# Altium integrated library Philips Microcontroller 8-Bit.IntLib: 472 symbols (part 15 of 17)
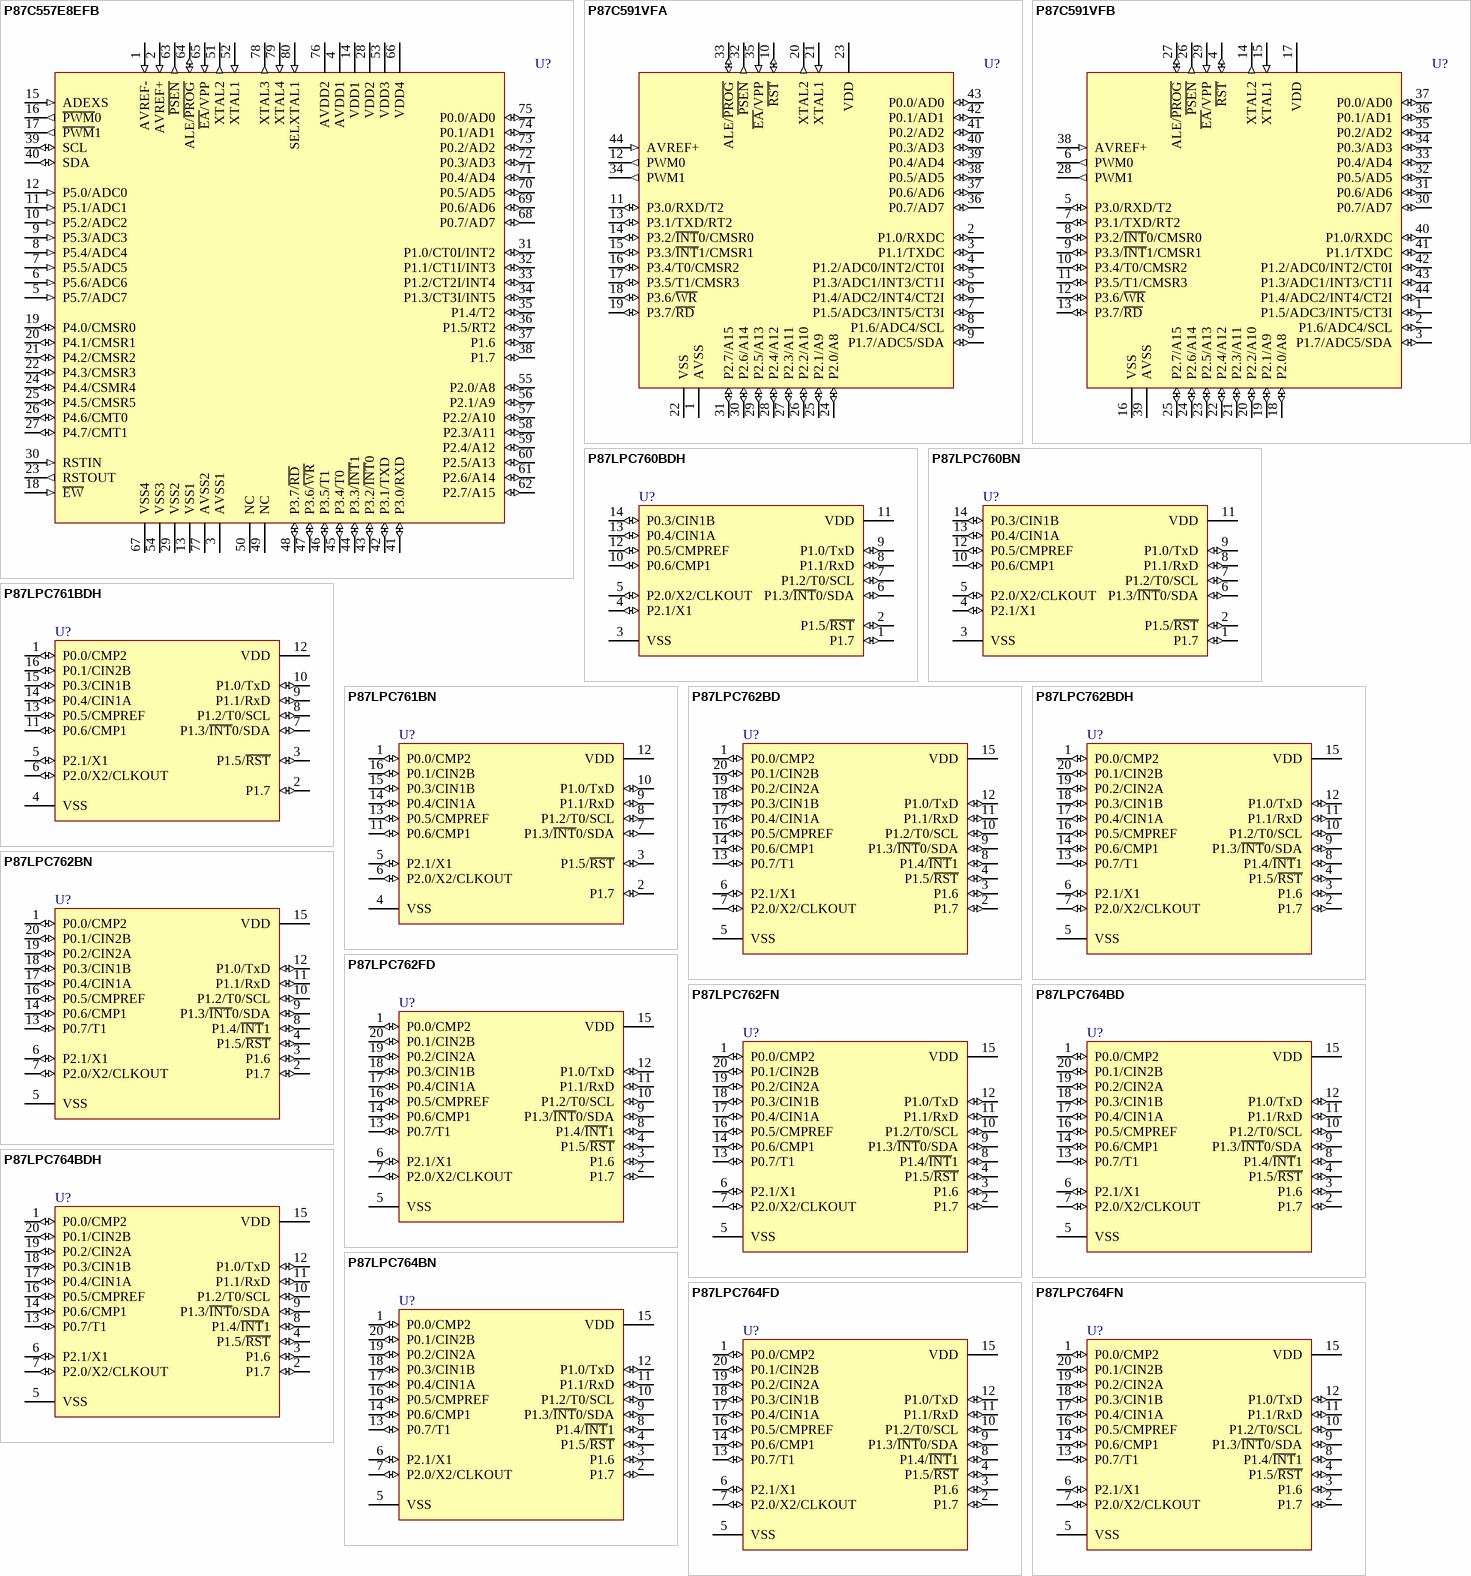
[diagram p62: symbols P87C557E8EFB to P87LPC764FN]

## P87LPC762BD
designator U?
Low Power, Low Price, Low Pin Count (20 pin) Microcontroller with 2 kB OTP; Published: 21-May-2003; LatestRevisionDate: 13-Apr-2006; LatestRevisionNote: IPC-7351 Footprint Added.; DatasheetVersion: 26-Oct-2001; PackageVersion: Oct-2001; PackageReference: SOT163-1; Publisher: Altium Limited; PackageDescription: 20-Pin Plastic Small Outline Integrated Circuit 1.27 mm Pitch; Code_JEDEC: MS-013; Code_IPC: SOIC127P1030-20; ComponentLink1Description: Manufacturer Link; ComponentLink1URL: http://www-us2.semiconductors.philips.com/; ComponentLink2Description: Datasheet; ComponentLink2URL: http://www.semiconductors.philips.com/acrobat/datasheets/87LPC762_7.pdf
footprint SOT163-1_N (SOIC, 20-Leads, Body 12.8x7.5mm, Pitch 1.27mm, IPC Medium Density)
footprint SOT163-1_L (SOIC, 20-Leads, Body 12.8x7.5mm, Pitch 1.27mm, IPC High Density)
footprint SOT163-1_M (SOIC, 20-Leads, Body 12.8x7.5mm, Pitch 1.27mm, IPC Low Density)
pins: 1 P0.0/CMP2 (io), 2 P1.7 (io), 3 P1.6 (io), 4 P1.5/~{RST} (io), 5 VSS (power), 6 P2.1/X1 (io), 7 P2.0/X2/CLKOUT (io), 8 P1.4/~{INT}1 (io), 9 P1.3/~{INT}0/SDA (io), 10 P1.2/T0/SCL (io), 11 P1.1/RxD (io), 12 P1.0/TxD (io), 13 P0.7/T1 (io), 14 P0.6/CMP1 (io), 15 VDD (power), 16 P0.5/CMPREF (io), 17 P0.4/CIN1A (io), 18 P0.3/CIN1B (io), 19 P0.2/CIN2A (io), 20 P0.1/CIN2B (io)

## P87LPC762BDH
designator U?
Low Power, Low Price, Low Pin Count (20 pin) Microcontroller with 2 kB OTP; Published: 21-May-2003; DatasheetVersion: 26-Oct-2001; PackageVersion: Oct-2001; PackageReference: SOT360-1; Publisher: Altium Limited; PackageDescription: Shrink Small Outline; 20 Leads; Body Width 4.4 mm; Pitch 0.65 mm; Code_JEDEC: MO-153; ComponentLink1Description: Manufacturer Link; ComponentLink1URL: http://www-us2.semiconductors.philips.com/; ComponentLink2Description: Datasheet; ComponentLink2URL: http://www.semiconductors.philips.com/acrobat/datasheets/87LPC762_7.pdf
footprint SOT360-1 (Shrink Small Outline; 20 Leads; Body Width 4.4 mm; Pitch 0.65 mm)
pins: 1 P0.0/CMP2 (io), 2 P1.7 (io), 3 P1.6 (io), 4 P1.5/~{RST} (io), 5 VSS (power), 6 P2.1/X1 (io), 7 P2.0/X2/CLKOUT (io), 8 P1.4/~{INT}1 (io), 9 P1.3/~{INT}0/SDA (io), 10 P1.2/T0/SCL (io), 11 P1.1/RxD (io), 12 P1.0/TxD (io), 13 P0.7/T1 (io), 14 P0.6/CMP1 (io), 15 VDD (power), 16 P0.5/CMPREF (io), 17 P0.4/CIN1A (io), 18 P0.3/CIN1B (io), 19 P0.2/CIN2A (io), 20 P0.1/CIN2B (io)

## P87LPC762BN
designator U?
Low Power, Low Price, Low Pin Count (20 pin) Microcontroller with 2 kB OTP; Published: 21-May-2003; DatasheetVersion: 26-Oct-2001; PackageVersion: Oct-2001; PackageReference: SOT146-1; Publisher: Altium Limited; PackageDescription: DIP; 20 Leads; Row Spacing 7.62 mm; Pitch 2.54 mm; Code_JEDEC: MS-001-AD; ComponentLink1Description: Manufacturer Link; ComponentLink1URL: http://www-us2.semiconductors.philips.com/; ComponentLink2Description: Datasheet; ComponentLink2URL: http://www.semiconductors.philips.com/acrobat/datasheets/87LPC762_7.pdf
footprint SOT146-1 (DIP; 20 Leads; Row Spacing 7.62 mm; Pitch 2.54 mm)
pins: 1 P0.0/CMP2 (io), 2 P1.7 (io), 3 P1.6 (io), 4 P1.5/~{RST} (io), 5 VSS (power), 6 P2.1/X1 (io), 7 P2.0/X2/CLKOUT (io), 8 P1.4/~{INT}1 (io), 9 P1.3/~{INT}0/SDA (io), 10 P1.2/T0/SCL (io), 11 P1.1/RxD (io), 12 P1.0/TxD (io), 13 P0.7/T1 (io), 14 P0.6/CMP1 (io), 15 VDD (power), 16 P0.5/CMPREF (io), 17 P0.4/CIN1A (io), 18 P0.3/CIN1B (io), 19 P0.2/CIN2A (io), 20 P0.1/CIN2B (io)

## P87LPC762FD
designator U?
Low Power, Low Price, Low Pin Count (20 pin) Microcontroller with 2 kB OTP; Published: 21-May-2003; LatestRevisionDate: 13-Apr-2006; LatestRevisionNote: IPC-7351 Footprint Added.; DatasheetVersion: 26-Oct-2001; PackageVersion: Oct-2001; PackageReference: SOT163-1; Publisher: Altium Limited; PackageDescription: 20-Pin Plastic Small Outline Integrated Circuit 1.27 mm Pitch; Code_JEDEC: MS-013; Code_IPC: SOIC127P1030-20; ComponentLink1Description: Manufacturer Link; ComponentLink1URL: http://www-us2.semiconductors.philips.com/; ComponentLink2Description: Datasheet; ComponentLink2URL: http://www.semiconductors.philips.com/acrobat/datasheets/87LPC762_7.pdf
footprint SOT163-1_N (SOIC, 20-Leads, Body 12.8x7.5mm, Pitch 1.27mm, IPC Medium Density)
footprint SOT163-1_L (SOIC, 20-Leads, Body 12.8x7.5mm, Pitch 1.27mm, IPC High Density)
footprint SOT163-1_M (SOIC, 20-Leads, Body 12.8x7.5mm, Pitch 1.27mm, IPC Low Density)
pins: 1 P0.0/CMP2 (io), 2 P1.7 (io), 3 P1.6 (io), 4 P1.5/~{RST} (io), 5 VSS (power), 6 P2.1/X1 (io), 7 P2.0/X2/CLKOUT (io), 8 P1.4/~{INT}1 (io), 9 P1.3/~{INT}0/SDA (io), 10 P1.2/T0/SCL (io), 11 P1.1/RxD (io), 12 P1.0/TxD (io), 13 P0.7/T1 (io), 14 P0.6/CMP1 (io), 15 VDD (power), 16 P0.5/CMPREF (io), 17 P0.4/CIN1A (io), 18 P0.3/CIN1B (io), 19 P0.2/CIN2A (io), 20 P0.1/CIN2B (io)

## P87LPC762FN
designator U?
Low Power, Low Price, Low Pin Count (20 pin) Microcontroller with 2 kB OTP; Published: 21-May-2003; DatasheetVersion: 26-Oct-2001; PackageVersion: Oct-2001; PackageReference: SOT146-1; Publisher: Altium Limited; PackageDescription: DIP; 20 Leads; Row Spacing 7.62 mm; Pitch 2.54 mm; Code_JEDEC: MS-001-AD; ComponentLink1Description: Manufacturer Link; ComponentLink1URL: http://www-us2.semiconductors.philips.com/; ComponentLink2Description: Datasheet; ComponentLink2URL: http://www.semiconductors.philips.com/acrobat/datasheets/87LPC762_7.pdf
footprint SOT146-1 (DIP; 20 Leads; Row Spacing 7.62 mm; Pitch 2.54 mm)
pins: 1 P0.0/CMP2 (io), 2 P1.7 (io), 3 P1.6 (io), 4 P1.5/~{RST} (io), 5 VSS (power), 6 P2.1/X1 (io), 7 P2.0/X2/CLKOUT (io), 8 P1.4/~{INT}1 (io), 9 P1.3/~{INT}0/SDA (io), 10 P1.2/T0/SCL (io), 11 P1.1/RxD (io), 12 P1.0/TxD (io), 13 P0.7/T1 (io), 14 P0.6/CMP1 (io), 15 VDD (power), 16 P0.5/CMPREF (io), 17 P0.4/CIN1A (io), 18 P0.3/CIN1B (io), 19 P0.2/CIN2A (io), 20 P0.1/CIN2B (io)

## P87LPC764BD
designator U?
Low Power, Low Price, Low Pin Count (20 pin) Microcontroller with 4 kB OTP; Published: 21-May-2003; LatestRevisionDate: 13-Apr-2006; LatestRevisionNote: IPC-7351 Footprint Added.; DatasheetVersion: 26-Oct-2001; PackageVersion: Oct-2001; PackageReference: SOT163-1; Publisher: Altium Limited; PackageDescription: 20-Pin Plastic Small Outline Integrated Circuit 1.27 mm Pitch; Code_JEDEC: MS-013; Code_IPC: SOIC127P1030-20; ComponentLink1Description: Manufacturer Link; ComponentLink1URL: http://www-us2.semiconductors.philips.com/; ComponentLink2Description: Datasheet; ComponentLink2URL: http://www.semiconductors.philips.com/acrobat/datasheets/P87LPC764_11.pdf
footprint SOT163-1_N (SOIC, 20-Leads, Body 12.8x7.5mm, Pitch 1.27mm, IPC Medium Density)
footprint SOT163-1_L (SOIC, 20-Leads, Body 12.8x7.5mm, Pitch 1.27mm, IPC High Density)
footprint SOT163-1_M (SOIC, 20-Leads, Body 12.8x7.5mm, Pitch 1.27mm, IPC Low Density)
pins: 1 P0.0/CMP2 (io), 2 P1.7 (io), 3 P1.6 (io), 4 P1.5/~{RST} (io), 5 VSS (power), 6 P2.1/X1 (io), 7 P2.0/X2/CLKOUT (io), 8 P1.4/~{INT}1 (io), 9 P1.3/~{INT}0/SDA (io), 10 P1.2/T0/SCL (io), 11 P1.1/RxD (io), 12 P1.0/TxD (io), 13 P0.7/T1 (io), 14 P0.6/CMP1 (io), 15 VDD (power), 16 P0.5/CMPREF (io), 17 P0.4/CIN1A (io), 18 P0.3/CIN1B (io), 19 P0.2/CIN2A (io), 20 P0.1/CIN2B (io)

## P87LPC764BDH
designator U?
Low Power, Low Price, Low Pin Count (20 pin) Microcontroller with 4 kB OTP; Published: 21-May-2003; DatasheetVersion: 26-Oct-2001; PackageVersion: Oct-2001; PackageReference: SOT360-1; Publisher: Altium Limited; PackageDescription: Shrink Small Outline; 20 Leads; Body Width 4.4 mm; Pitch 0.65 mm; Code_JEDEC: MO-153; ComponentLink1Description: Manufacturer Link; ComponentLink1URL: http://www-us2.semiconductors.philips.com/; ComponentLink2Description: Datasheet; ComponentLink2URL: http://www.semiconductors.philips.com/acrobat/datasheets/P87LPC764_11.pdf
footprint SOT360-1 (Shrink Small Outline; 20 Leads; Body Width 4.4 mm; Pitch 0.65 mm)
pins: 1 P0.0/CMP2 (io), 2 P1.7 (io), 3 P1.6 (io), 4 P1.5/~{RST} (io), 5 VSS (power), 6 P2.1/X1 (io), 7 P2.0/X2/CLKOUT (io), 8 P1.4/~{INT}1 (io), 9 P1.3/~{INT}0/SDA (io), 10 P1.2/T0/SCL (io), 11 P1.1/RxD (io), 12 P1.0/TxD (io), 13 P0.7/T1 (io), 14 P0.6/CMP1 (io), 15 VDD (power), 16 P0.5/CMPREF (io), 17 P0.4/CIN1A (io), 18 P0.3/CIN1B (io), 19 P0.2/CIN2A (io), 20 P0.1/CIN2B (io)

## P87LPC764BN
designator U?
Low Power, Low Price, Low Pin Count (20 pin) Microcontroller with 4 kB OTP; Published: 21-May-2003; DatasheetVersion: 26-Oct-2001; PackageVersion: Oct-2001; PackageReference: SOT146-1; Publisher: Altium Limited; PackageDescription: DIP; 20 Leads; Row Spacing 7.62 mm; Pitch 2.54 mm; Code_JEDEC: MS-001-AD; ComponentLink1Description: Manufacturer Link; ComponentLink1URL: http://www-us2.semiconductors.philips.com/; ComponentLink2Description: Datasheet; ComponentLink2URL: http://www.semiconductors.philips.com/acrobat/datasheets/P87LPC764_11.pdf
footprint SOT146-1 (DIP; 20 Leads; Row Spacing 7.62 mm; Pitch 2.54 mm)
pins: 1 P0.0/CMP2 (io), 2 P1.7 (io), 3 P1.6 (io), 4 P1.5/~{RST} (io), 5 VSS (power), 6 P2.1/X1 (io), 7 P2.0/X2/CLKOUT (io), 8 P1.4/~{INT}1 (io), 9 P1.3/~{INT}0/SDA (io), 10 P1.2/T0/SCL (io), 11 P1.1/RxD (io), 12 P1.0/TxD (io), 13 P0.7/T1 (io), 14 P0.6/CMP1 (io), 15 VDD (power), 16 P0.5/CMPREF (io), 17 P0.4/CIN1A (io), 18 P0.3/CIN1B (io), 19 P0.2/CIN2A (io), 20 P0.1/CIN2B (io)

## P87LPC764FD
designator U?
Low Power, Low Price, Low Pin Count (20 pin) Microcontroller with 4 kB OTP; Published: 21-May-2003; LatestRevisionDate: 13-Apr-2006; LatestRevisionNote: IPC-7351 Footprint Added.; DatasheetVersion: 26-Oct-2001; PackageVersion: Oct-2001; PackageReference: SOT163-1; Publisher: Altium Limited; PackageDescription: 20-Pin Plastic Small Outline Integrated Circuit 1.27 mm Pitch; Code_JEDEC: MS-013; Code_IPC: SOIC127P1030-20; ComponentLink1Description: Manufacturer Link; ComponentLink1URL: http://www-us2.semiconductors.philips.com/; ComponentLink2Description: Datasheet; ComponentLink2URL: http://www.semiconductors.philips.com/acrobat/datasheets/P87LPC764_11.pdf
footprint SOT163-1_N (SOIC, 20-Leads, Body 12.8x7.5mm, Pitch 1.27mm, IPC Medium Density)
footprint SOT163-1_L (SOIC, 20-Leads, Body 12.8x7.5mm, Pitch 1.27mm, IPC High Density)
footprint SOT163-1_M (SOIC, 20-Leads, Body 12.8x7.5mm, Pitch 1.27mm, IPC Low Density)
pins: 1 P0.0/CMP2 (io), 2 P1.7 (io), 3 P1.6 (io), 4 P1.5/~{RST} (io), 5 VSS (power), 6 P2.1/X1 (io), 7 P2.0/X2/CLKOUT (io), 8 P1.4/~{INT}1 (io), 9 P1.3/~{INT}0/SDA (io), 10 P1.2/T0/SCL (io), 11 P1.1/RxD (io), 12 P1.0/TxD (io), 13 P0.7/T1 (io), 14 P0.6/CMP1 (io), 15 VDD (power), 16 P0.5/CMPREF (io), 17 P0.4/CIN1A (io), 18 P0.3/CIN1B (io), 19 P0.2/CIN2A (io), 20 P0.1/CIN2B (io)

## P87LPC764FN
designator U?
Low Power, Low Price, Low Pin Count (20 pin) Microcontroller with 4 kB OTP; Published: 21-May-2003; DatasheetVersion: 26-Oct-2001; PackageVersion: Oct-2001; PackageReference: SOT146-1; Publisher: Altium Limited; PackageDescription: DIP; 20 Leads; Row Spacing 7.62 mm; Pitch 2.54 mm; Code_JEDEC: MS-001-AD; ComponentLink1Description: Manufacturer Link; ComponentLink1URL: http://www-us2.semiconductors.philips.com/; ComponentLink2Description: Datasheet; ComponentLink2URL: http://www.semiconductors.philips.com/acrobat/datasheets/P87LPC764_11.pdf
footprint SOT146-1 (DIP; 20 Leads; Row Spacing 7.62 mm; Pitch 2.54 mm)
pins: 1 P0.0/CMP2 (io), 2 P1.7 (io), 3 P1.6 (io), 4 P1.5/~{RST} (io), 5 VSS (power), 6 P2.1/X1 (io), 7 P2.0/X2/CLKOUT (io), 8 P1.4/~{INT}1 (io), 9 P1.3/~{INT}0/SDA (io), 10 P1.2/T0/SCL (io), 11 P1.1/RxD (io), 12 P1.0/TxD (io), 13 P0.7/T1 (io), 14 P0.6/CMP1 (io), 15 VDD (power), 16 P0.5/CMPREF (io), 17 P0.4/CIN1A (io), 18 P0.3/CIN1B (io), 19 P0.2/CIN2A (io), 20 P0.1/CIN2B (io)

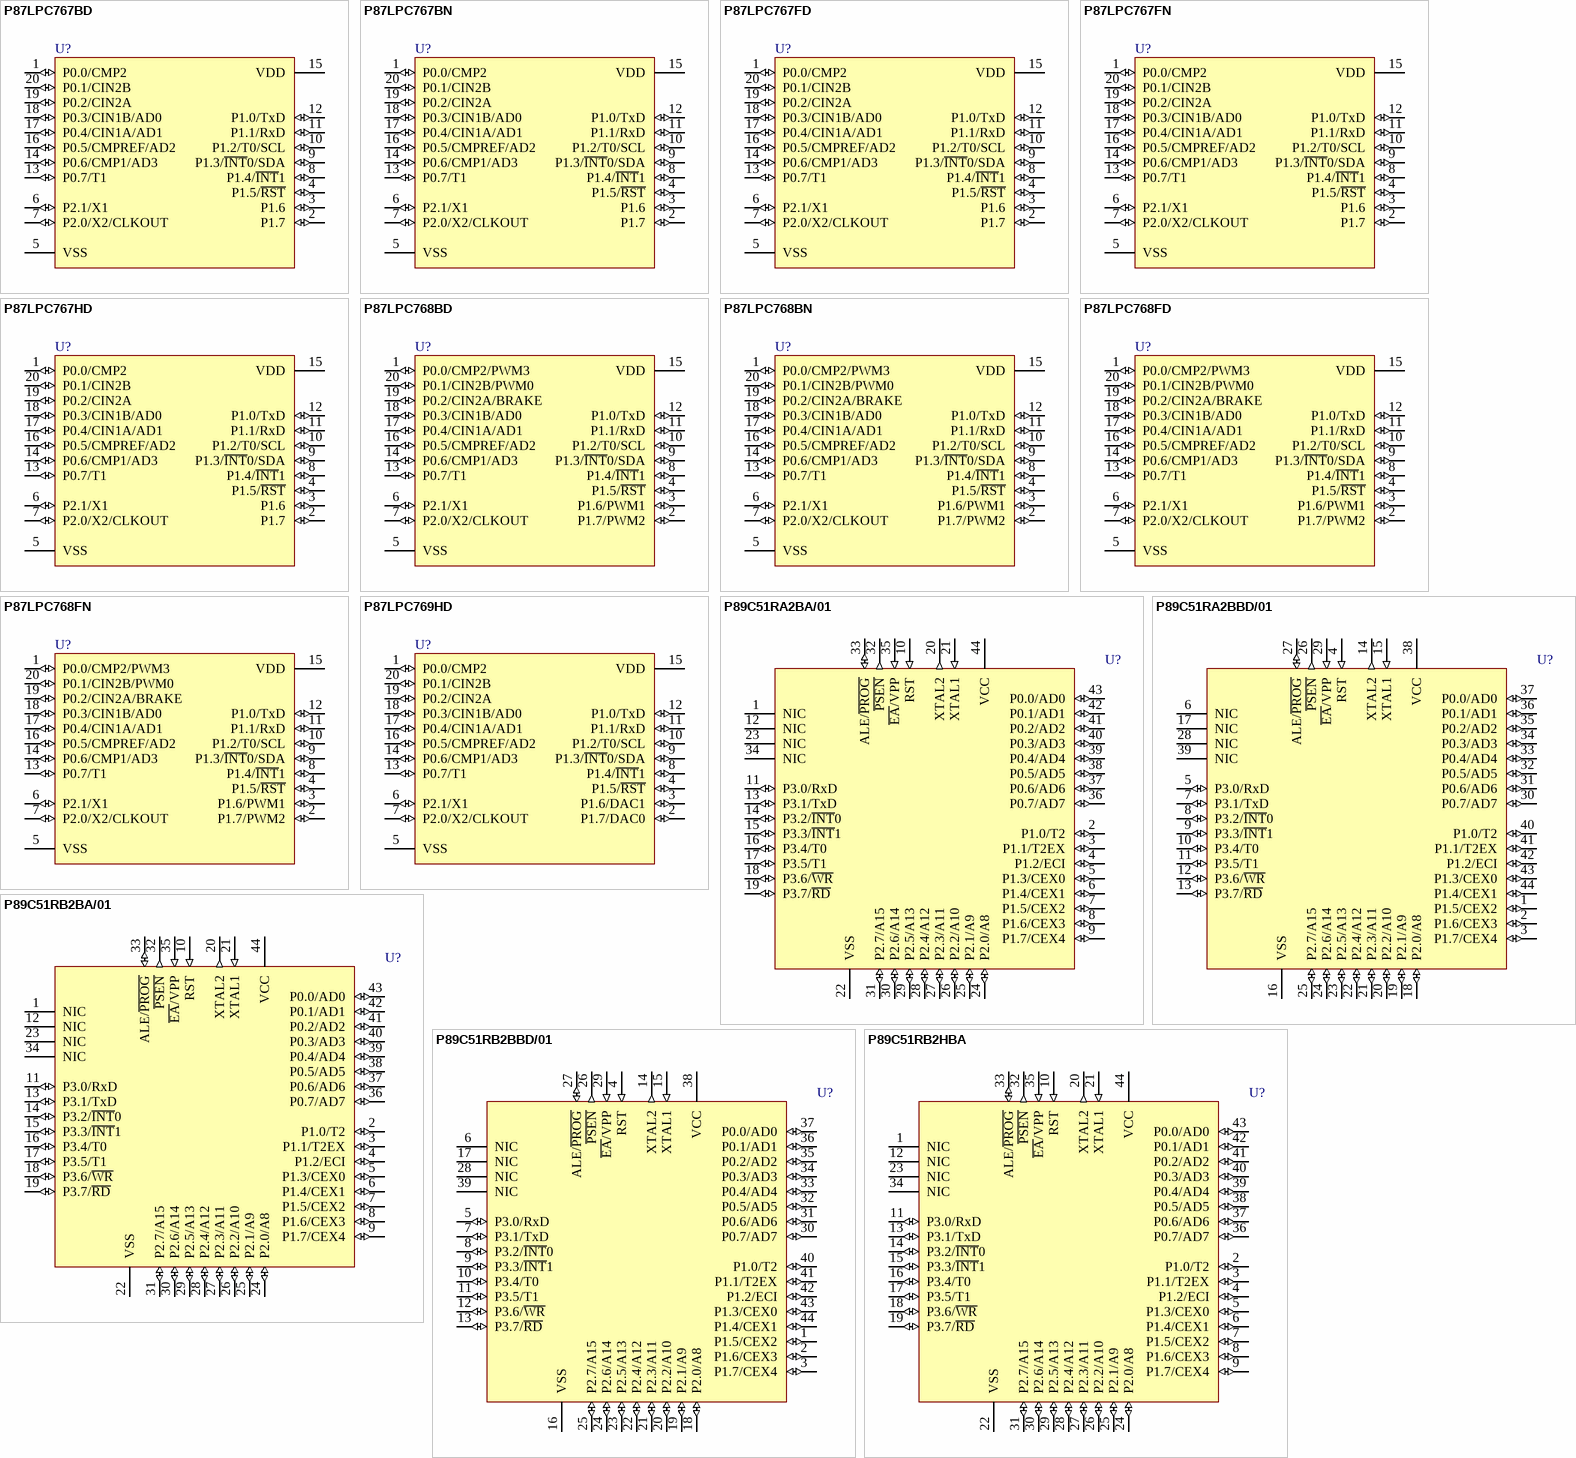
[diagram p42: symbols P87LPC767BD to P89C51RB2HBA]

## P87LPC767BD
designator U?
Low Power, Low Price, Low Pin Count (20 pin) Microcontroller with 4 kB OTP and 8-Bit A/D Converter; Published: 21-May-2003; LatestRevisionDate: 13-Apr-2006; LatestRevisionNote: IPC-7351 Footprint Added.; DatasheetVersion: 25-Mar-2002; PackageVersion: Oct-2001; PackageReference: SOT163-1; Publisher: Altium Limited; PackageDescription: 20-Pin Plastic Small Outline Integrated Circuit 1.27 mm Pitch; Code_JEDEC: MS-013; Code_IPC: SOIC127P1030-20; ComponentLink1Description: Manufacturer Link; ComponentLink1URL: http://www-us2.semiconductors.philips.com/; ComponentLink2Description: Datasheet; ComponentLink2URL: http://www.semiconductors.philips.com/acrobat/datasheets/P87LPC767_6.pdf
footprint SOT163-1_N (SOIC, 20-Leads, Body 12.8x7.5mm, Pitch 1.27mm, IPC Medium Density)
footprint SOT163-1_L (SOIC, 20-Leads, Body 12.8x7.5mm, Pitch 1.27mm, IPC High Density)
footprint SOT163-1_M (SOIC, 20-Leads, Body 12.8x7.5mm, Pitch 1.27mm, IPC Low Density)
pins: 1 P0.0/CMP2 (io), 2 P1.7 (io), 3 P1.6 (io), 4 P1.5/~{RST} (io), 5 VSS (power), 6 P2.1/X1 (io), 7 P2.0/X2/CLKOUT (io), 8 P1.4/~{INT}1 (io), 9 P1.3/~{INT}0/SDA (io), 10 P1.2/T0/SCL (io), 11 P1.1/RxD (io), 12 P1.0/TxD (io), 13 P0.7/T1 (io), 14 P0.6/CMP1/AD3 (io), 15 VDD (power), 16 P0.5/CMPREF/AD2 (io), 17 P0.4/CIN1A/AD1 (io), 18 P0.3/CIN1B/AD0 (io), 19 P0.2/CIN2A (io), 20 P0.1/CIN2B (io)

## P87LPC767BN
designator U?
Low Power, Low Price, Low Pin Count (20 pin) Microcontroller with 4 kB OTP and 8-Bit A/D Converter; Published: 21-May-2003; DatasheetVersion: 25-Mar-2002; PackageVersion: Oct-2001; PackageReference: SOT146-1; Publisher: Altium Limited; PackageDescription: DIP; 20 Leads; Row Spacing 7.62 mm; Pitch 2.54 mm; Code_JEDEC: MS-001-AD; ComponentLink1Description: Manufacturer Link; ComponentLink1URL: http://www-us2.semiconductors.philips.com/; ComponentLink2Description: Datasheet; ComponentLink2URL: http://www.semiconductors.philips.com/acrobat/datasheets/P87LPC767_6.pdf
footprint SOT146-1 (DIP; 20 Leads; Row Spacing 7.62 mm; Pitch 2.54 mm)
pins: 1 P0.0/CMP2 (io), 2 P1.7 (io), 3 P1.6 (io), 4 P1.5/~{RST} (io), 5 VSS (power), 6 P2.1/X1 (io), 7 P2.0/X2/CLKOUT (io), 8 P1.4/~{INT}1 (io), 9 P1.3/~{INT}0/SDA (io), 10 P1.2/T0/SCL (io), 11 P1.1/RxD (io), 12 P1.0/TxD (io), 13 P0.7/T1 (io), 14 P0.6/CMP1/AD3 (io), 15 VDD (power), 16 P0.5/CMPREF/AD2 (io), 17 P0.4/CIN1A/AD1 (io), 18 P0.3/CIN1B/AD0 (io), 19 P0.2/CIN2A (io), 20 P0.1/CIN2B (io)

## P87LPC767FD
designator U?
Low Power, Low Price, Low Pin Count (20 pin) Microcontroller with 4 kB OTP and 8-Bit A/D Converter; Published: 21-May-2003; LatestRevisionDate: 13-Apr-2006; LatestRevisionNote: IPC-7351 Footprint Added.; DatasheetVersion: 25-Mar-2002; PackageVersion: Oct-2001; PackageReference: SOT163-1; Publisher: Altium Limited; PackageDescription: 20-Pin Plastic Small Outline Integrated Circuit 1.27 mm Pitch; Code_JEDEC: MS-013; Code_IPC: SOIC127P1030-20; ComponentLink1Description: Manufacturer Link; ComponentLink1URL: http://www-us2.semiconductors.philips.com/; ComponentLink2Description: Datasheet; ComponentLink2URL: http://www.semiconductors.philips.com/acrobat/datasheets/P87LPC767_6.pdf
footprint SOT163-1_N (SOIC, 20-Leads, Body 12.8x7.5mm, Pitch 1.27mm, IPC Medium Density)
footprint SOT163-1_L (SOIC, 20-Leads, Body 12.8x7.5mm, Pitch 1.27mm, IPC High Density)
footprint SOT163-1_M (SOIC, 20-Leads, Body 12.8x7.5mm, Pitch 1.27mm, IPC Low Density)
pins: 1 P0.0/CMP2 (io), 2 P1.7 (io), 3 P1.6 (io), 4 P1.5/~{RST} (io), 5 VSS (power), 6 P2.1/X1 (io), 7 P2.0/X2/CLKOUT (io), 8 P1.4/~{INT}1 (io), 9 P1.3/~{INT}0/SDA (io), 10 P1.2/T0/SCL (io), 11 P1.1/RxD (io), 12 P1.0/TxD (io), 13 P0.7/T1 (io), 14 P0.6/CMP1/AD3 (io), 15 VDD (power), 16 P0.5/CMPREF/AD2 (io), 17 P0.4/CIN1A/AD1 (io), 18 P0.3/CIN1B/AD0 (io), 19 P0.2/CIN2A (io), 20 P0.1/CIN2B (io)

## P87LPC767FN
designator U?
Low Power, Low Price, Low Pin Count (20 pin) Microcontroller with 4 kB OTP and 8-Bit A/D Converter; Published: 21-May-2003; DatasheetVersion: 25-Mar-2002; PackageVersion: Oct-2001; PackageReference: SOT146-1; Publisher: Altium Limited; PackageDescription: DIP; 20 Leads; Row Spacing 7.62 mm; Pitch 2.54 mm; Code_JEDEC: MS-001-AD; ComponentLink1Description: Manufacturer Link; ComponentLink1URL: http://www-us2.semiconductors.philips.com/; ComponentLink2Description: Datasheet; ComponentLink2URL: http://www.semiconductors.philips.com/acrobat/datasheets/P87LPC767_6.pdf
footprint SOT146-1 (DIP; 20 Leads; Row Spacing 7.62 mm; Pitch 2.54 mm)
pins: 1 P0.0/CMP2 (io), 2 P1.7 (io), 3 P1.6 (io), 4 P1.5/~{RST} (io), 5 VSS (power), 6 P2.1/X1 (io), 7 P2.0/X2/CLKOUT (io), 8 P1.4/~{INT}1 (io), 9 P1.3/~{INT}0/SDA (io), 10 P1.2/T0/SCL (io), 11 P1.1/RxD (io), 12 P1.0/TxD (io), 13 P0.7/T1 (io), 14 P0.6/CMP1/AD3 (io), 15 VDD (power), 16 P0.5/CMPREF/AD2 (io), 17 P0.4/CIN1A/AD1 (io), 18 P0.3/CIN1B/AD0 (io), 19 P0.2/CIN2A (io), 20 P0.1/CIN2B (io)

## P87LPC767HD
designator U?
Low Power, Low Price, Low Pin Count (20 pin) Microcontroller with 4 kB OTP and 8-Bit A/D Converter; Published: 21-May-2003; LatestRevisionDate: 13-Apr-2006; LatestRevisionNote: IPC-7351 Footprint Added.; DatasheetVersion: 25-Mar-2002; PackageVersion: Oct-2001; PackageReference: SOT163-1; Publisher: Altium Limited; PackageDescription: 20-Pin Plastic Small Outline Integrated Circuit 1.27 mm Pitch; Code_JEDEC: MS-013; Code_IPC: SOIC127P1030-20; ComponentLink1Description: Manufacturer Link; ComponentLink1URL: http://www-us2.semiconductors.philips.com/; ComponentLink2Description: Datasheet; ComponentLink2URL: http://www.semiconductors.philips.com/acrobat/datasheets/P87LPC767_6.pdf
footprint SOT163-1_N (SOIC, 20-Leads, Body 12.8x7.5mm, Pitch 1.27mm, IPC Medium Density)
footprint SOT163-1_L (SOIC, 20-Leads, Body 12.8x7.5mm, Pitch 1.27mm, IPC High Density)
footprint SOT163-1_M (SOIC, 20-Leads, Body 12.8x7.5mm, Pitch 1.27mm, IPC Low Density)
pins: 1 P0.0/CMP2 (io), 2 P1.7 (io), 3 P1.6 (io), 4 P1.5/~{RST} (io), 5 VSS (power), 6 P2.1/X1 (io), 7 P2.0/X2/CLKOUT (io), 8 P1.4/~{INT}1 (io), 9 P1.3/~{INT}0/SDA (io), 10 P1.2/T0/SCL (io), 11 P1.1/RxD (io), 12 P1.0/TxD (io), 13 P0.7/T1 (io), 14 P0.6/CMP1/AD3 (io), 15 VDD (power), 16 P0.5/CMPREF/AD2 (io), 17 P0.4/CIN1A/AD1 (io), 18 P0.3/CIN1B/AD0 (io), 19 P0.2/CIN2A (io), 20 P0.1/CIN2B (io)

## P87LPC768BD
designator U?
Low Power, Low Price, Low Pin Count (20 pin) Microcontroller with 4 kB OTP 8-Bit A/D, PWM; Published: 21-May-2003; LatestRevisionDate: 13-Apr-2006; LatestRevisionNote: IPC-7351 Footprint Added.; DatasheetVersion: 12-Mar-2002; PackageVersion: Oct-2001; PackageReference: SOT163-1; Publisher: Altium Limited; PackageDescription: 20-Pin Plastic Small Outline Integrated Circuit 1.27 mm Pitch; Code_JEDEC: MS-013; Code_IPC: SOIC127P1030-20; ComponentLink1Description: Manufacturer Link; ComponentLink1URL: http://www-us2.semiconductors.philips.com/; ComponentLink2Description: Introduction; ComponentLink2URL: http://www.semiconductors.philips.com/acrobat_download/literature/9397/75007045.pdf
footprint SOT163-1_N (SOIC, 20-Leads, Body 12.8x7.5mm, Pitch 1.27mm, IPC Medium Density)
footprint SOT163-1_L (SOIC, 20-Leads, Body 12.8x7.5mm, Pitch 1.27mm, IPC High Density)
footprint SOT163-1_M (SOIC, 20-Leads, Body 12.8x7.5mm, Pitch 1.27mm, IPC Low Density)
pins: 1 P0.0/CMP2/PWM3 (io), 2 P1.7/PWM2 (io), 3 P1.6/PWM1 (io), 4 P1.5/~{RST} (io), 5 VSS (power), 6 P2.1/X1 (io), 7 P2.0/X2/CLKOUT (io), 8 P1.4/~{INT}1 (io), 9 P1.3/~{INT}0/SDA (io), 10 P1.2/T0/SCL (io), 11 P1.1/RxD (io), 12 P1.0/TxD (io), 13 P0.7/T1 (io), 14 P0.6/CMP1/AD3 (io), 15 VDD (power), 16 P0.5/CMPREF/AD2 (io), 17 P0.4/CIN1A/AD1 (io), 18 P0.3/CIN1B/AD0 (io), 19 P0.2/CIN2A/BRAKE (io), 20 P0.1/CIN2B/PWM0 (io)

## P87LPC768BN
designator U?
Low Power, Low Price, Low Pin Count (20 pin) Microcontroller with 4 kB OTP 8-Bit A/D, PWM; Published: 21-May-2003; DatasheetVersion: 12-Mar-2002; PackageVersion: Oct-2001; PackageReference: SOT146-1; Publisher: Altium Limited; PackageDescription: DIP; 20 Leads; Row Spacing 7.62 mm; Pitch 2.54 mm; Code_JEDEC: MS-001-AD; ComponentLink1Description: Manufacturer Link; ComponentLink1URL: http://www-us2.semiconductors.philips.com/; ComponentLink2Description: Introduction; ComponentLink2URL: http://www.semiconductors.philips.com/acrobat_download/literature/9397/75007045.pdf
footprint SOT146-1 (DIP; 20 Leads; Row Spacing 7.62 mm; Pitch 2.54 mm)
pins: 1 P0.0/CMP2/PWM3 (io), 2 P1.7/PWM2 (io), 3 P1.6/PWM1 (io), 4 P1.5/~{RST} (io), 5 VSS (power), 6 P2.1/X1 (io), 7 P2.0/X2/CLKOUT (io), 8 P1.4/~{INT}1 (io), 9 P1.3/~{INT}0/SDA (io), 10 P1.2/T0/SCL (io), 11 P1.1/RxD (io), 12 P1.0/TxD (io), 13 P0.7/T1 (io), 14 P0.6/CMP1/AD3 (io), 15 VDD (power), 16 P0.5/CMPREF/AD2 (io), 17 P0.4/CIN1A/AD1 (io), 18 P0.3/CIN1B/AD0 (io), 19 P0.2/CIN2A/BRAKE (io), 20 P0.1/CIN2B/PWM0 (io)

## P87LPC768FD
designator U?
Low Power, Low Price, Low Pin Count (20 pin) Microcontroller with 4 kB OTP 8-Bit A/D, PWM; Published: 21-May-2003; LatestRevisionDate: 13-Apr-2006; LatestRevisionNote: IPC-7351 Footprint Added.; DatasheetVersion: 12-Mar-2002; PackageVersion: Oct-2001; PackageReference: SOT163-1; Publisher: Altium Limited; PackageDescription: 20-Pin Plastic Small Outline Integrated Circuit 1.27 mm Pitch; Code_JEDEC: MS-013; Code_IPC: SOIC127P1030-20; ComponentLink1Description: Manufacturer Link; ComponentLink1URL: http://www-us2.semiconductors.philips.com/; ComponentLink2Description: Introduction; ComponentLink2URL: http://www.semiconductors.philips.com/acrobat_download/literature/9397/75007045.pdf
footprint SOT163-1_N (SOIC, 20-Leads, Body 12.8x7.5mm, Pitch 1.27mm, IPC Medium Density)
footprint SOT163-1_L (SOIC, 20-Leads, Body 12.8x7.5mm, Pitch 1.27mm, IPC High Density)
footprint SOT163-1_M (SOIC, 20-Leads, Body 12.8x7.5mm, Pitch 1.27mm, IPC Low Density)
pins: 1 P0.0/CMP2/PWM3 (io), 2 P1.7/PWM2 (io), 3 P1.6/PWM1 (io), 4 P1.5/~{RST} (io), 5 VSS (power), 6 P2.1/X1 (io), 7 P2.0/X2/CLKOUT (io), 8 P1.4/~{INT}1 (io), 9 P1.3/~{INT}0/SDA (io), 10 P1.2/T0/SCL (io), 11 P1.1/RxD (io), 12 P1.0/TxD (io), 13 P0.7/T1 (io), 14 P0.6/CMP1/AD3 (io), 15 VDD (power), 16 P0.5/CMPREF/AD2 (io), 17 P0.4/CIN1A/AD1 (io), 18 P0.3/CIN1B/AD0 (io), 19 P0.2/CIN2A/BRAKE (io), 20 P0.1/CIN2B/PWM0 (io)

## P87LPC768FN
designator U?
Low Power, Low Price, Low Pin Count (20 pin) Microcontroller with 4 kB OTP 8-Bit A/D, PWM; Published: 21-May-2003; DatasheetVersion: 12-Mar-2002; PackageVersion: Oct-2001; PackageReference: SOT146-1; Publisher: Altium Limited; PackageDescription: DIP; 20 Leads; Row Spacing 7.62 mm; Pitch 2.54 mm; Code_JEDEC: MS-001-AD; ComponentLink1Description: Manufacturer Link; ComponentLink1URL: http://www-us2.semiconductors.philips.com/; ComponentLink2Description: Introduction; ComponentLink2URL: http://www.semiconductors.philips.com/acrobat_download/literature/9397/75007045.pdf
footprint SOT146-1 (DIP; 20 Leads; Row Spacing 7.62 mm; Pitch 2.54 mm)
pins: 1 P0.0/CMP2/PWM3 (io), 2 P1.7/PWM2 (io), 3 P1.6/PWM1 (io), 4 P1.5/~{RST} (io), 5 VSS (power), 6 P2.1/X1 (io), 7 P2.0/X2/CLKOUT (io), 8 P1.4/~{INT}1 (io), 9 P1.3/~{INT}0/SDA (io), 10 P1.2/T0/SCL (io), 11 P1.1/RxD (io), 12 P1.0/TxD (io), 13 P0.7/T1 (io), 14 P0.6/CMP1/AD3 (io), 15 VDD (power), 16 P0.5/CMPREF/AD2 (io), 17 P0.4/CIN1A/AD1 (io), 18 P0.3/CIN1B/AD0 (io), 19 P0.2/CIN2A/BRAKE (io), 20 P0.1/CIN2B/PWM0 (io)

## P87LPC769HD
designator U?
Low Power, Low Price, Low Pin Count (20 pin) Microcontroller with 4 kB OTP 8-Bit A/D, and DAC; Published: 21-May-2003; LatestRevisionDate: 13-Apr-2006; LatestRevisionNote: IPC-7351 Footprint Added.; DatasheetVersion: 12-Mar-2002; PackageVersion: Oct-2001; PackageReference: SOT163-1; Publisher: Altium Limited; PackageDescription: 20-Pin Plastic Small Outline Integrated Circuit 1.27 mm Pitch; Code_JEDEC: MS-013; Code_IPC: SOIC127P1030-20; ComponentLink1Description: Manufacturer Link; ComponentLink1URL: http://www-us2.semiconductors.philips.com/; ComponentLink2Description: Datasheet; ComponentLink2URL: http://www.semiconductors.philips.com/acrobat/datasheets/P87LPC769_3.pdf
footprint SOT163-1_N (SOIC, 20-Leads, Body 12.8x7.5mm, Pitch 1.27mm, IPC Medium Density)
footprint SOT163-1_L (SOIC, 20-Leads, Body 12.8x7.5mm, Pitch 1.27mm, IPC High Density)
footprint SOT163-1_M (SOIC, 20-Leads, Body 12.8x7.5mm, Pitch 1.27mm, IPC Low Density)
pins: 1 P0.0/CMP2 (io), 2 P1.7/DAC0 (io), 3 P1.6/DAC1 (io), 4 P1.5/~{RST} (io), 5 VSS (power), 6 P2.1/X1 (io), 7 P2.0/X2/CLKOUT (io), 8 P1.4/~{INT}1 (io), 9 P1.3/~{INT}0/SDA (io), 10 P1.2/T0/SCL (io), 11 P1.1/RxD (io), 12 P1.0/TxD (io), 13 P0.7/T1 (io), 14 P0.6/CMP1/AD3 (io), 15 VDD (power), 16 P0.5/CMPREF/AD2 (io), 17 P0.4/CIN1A/AD1 (io), 18 P0.3/CIN1B/AD0 (io), 19 P0.2/CIN2A (io), 20 P0.1/CIN2B (io)

## P89C51RA2BA/01
designator U?
80C51 8-Bit Flash Microcontroller Family, 8 kB ISP/IAP Flash with 512 B RAM.; Published: 21-May-2003; LatestRevisionDate: 13-Apr-2006; LatestRevisionNote: IPC-7351 Footprint Added.; DatasheetVersion: 18-Jul-2002; PackageVersion: Jan-2000; PackageReference: SOT187-2; Publisher: Altium Limited; PackageDescription: 44-Pin Leaded Chip Carrier 1.27 mm Pitch; Code_JEDEC: MO-047AC; Code_IPC: PLCC-44; ComponentLink1Description: Manufacturer Link; ComponentLink1URL: http://www-us2.semiconductors.philips.com/; ComponentLink2Description: Datasheet; ComponentLink2URL: http://www.semiconductors.philips.com/acrobat/datasheets/P89C51RA2_RB2_RC2_RD2_2.pdf
footprint SOT187-2_N (Leaded Chip Carrier, 44-Leads, Body 16.6x16.6mm, Pitch 1.27mm, IPC Medium Density)
footprint SOT187-2_L (Leaded Chip Carrier, 44-Leads, Body 16.6x16.6mm, Pitch 1.27mm, IPC High Density)
footprint SOT187-2_M (Leaded Chip Carrier, 44-Leads, Body 16.6x16.6mm, Pitch 1.27mm, IPC Low Density)
pins: 1 NIC, 2 P1.0/T2 (io), 3 P1.1/T2EX (io), 4 P1.2/ECI (io), 5 P1.3/CEX0 (io), 6 P1.4/CEX1 (io), 7 P1.5/CEX2 (io), 8 P1.6/CEX3 (io), 9 P1.7/CEX4 (io), 10 RST (in), 11 P3.0/RxD (io), 12 NIC, 13 P3.1/TxD (io), 14 P3.2/~{INT}0 (io), 15 P3.3/~{INT}1 (io), 16 P3.4/T0 (io), 17 P3.5/T1 (io), 18 P3.6/~{WR} (io), 19 P3.7/~{RD} (io), 20 XTAL2 (out), 21 XTAL1 (in), 22 VSS (power), 23 NIC, 24 P2.0/A8 (io), 25 P2.1/A9 (io), 26 P2.2/A10 (io), 27 P2.3/A11 (io), 28 P2.4/A12 (io), 29 P2.5/A13 (io), 30 P2.6/A14 (io), 31 P2.7/A15 (io), 32 ~{PSEN} (out), 33 ALE/~{PROG} (io), 34 NIC, 35 ~{EA}/VPP (in), 36 P0.7/AD7 (io), 37 P0.6/AD6 (io), 38 P0.5/AD5 (io), 39 P0.4/AD4 (io), 40 P0.3/AD3 (io), 41 P0.2/AD2 (io), 42 P0.1/AD1 (io), 43 P0.0/AD0 (io), 44 VCC (power)

## P89C51RA2BBD/01
designator U?
80C51 8-Bit Flash Microcontroller Family, 8 kB ISP/IAP Flash with 512 B RAM.; Published: 21-May-2003; LatestRevisionDate: 13-Apr-2006; LatestRevisionNote: IPC-7351 Footprint Added.; DatasheetVersion: 18-Jul-2002; PackageVersion: Jan-2002; PackageReference: SOT389-1; Publisher: Altium Limited; PackageDescription: 44-Pin Thin Quad Flat Pack 0.8 mm Pitch; Code_JEDEC: MO-026; ComponentLink1Description: Manufacturer Link; ComponentLink1URL: http://www-us2.semiconductors.philips.com/; ComponentLink2Description: Datasheet; ComponentLink2URL: http://www.semiconductors.philips.com/acrobat/datasheets/P89C51RA2_RB2_RC2_RD2_2.pdf
footprint SOT389-1_N (Thin QFP, 44-Leads, Body 10x10mm, Pitch 0.8mm, IPC Medium Density)
footprint SOT389-1_L (Thin QFP, 44-Leads, Body 10x10mm, Pitch 0.8mm, IPC High Density)
footprint SOT389-1_M (Thin QFP, 44-Leads, Body 10x10mm, Pitch 0.8mm, IPC Low Density)
pins: 1 P1.5/CEX2 (io), 2 P1.6/CEX3 (io), 3 P1.7/CEX4 (io), 4 RST (in), 5 P3.0/RxD (io), 6 NIC, 7 P3.1/TxD (io), 8 P3.2/~{INT}0 (io), 9 P3.3/~{INT}1 (io), 10 P3.4/T0 (io), 11 P3.5/T1 (io), 12 P3.6/~{WR} (io), 13 P3.7/~{RD} (io), 14 XTAL2 (out), 15 XTAL1 (in), 16 VSS (power), 17 NIC, 18 P2.0/A8 (io), 19 P2.1/A9 (io), 20 P2.2/A10 (io), 21 P2.3/A11 (io), 22 P2.4/A12 (io), 23 P2.5/A13 (io), 24 P2.6/A14 (io), 25 P2.7/A15 (io), 26 ~{PSEN} (out), 27 ALE/~{PROG} (io), 28 NIC, 29 ~{EA}/VPP (in), 30 P0.7/AD7 (io), 31 P0.6/AD6 (io), 32 P0.5/AD5 (io), 33 P0.4/AD4 (io), 34 P0.3/AD3 (io), 35 P0.2/AD2 (io), 36 P0.1/AD1 (io), 37 P0.0/AD0 (io), 38 VCC (power), 39 NIC, 40 P1.0/T2 (io), 41 P1.1/T2EX (io), 42 P1.2/ECI (io), 43 P1.3/CEX0 (io), 44 P1.4/CEX1 (io)

## P89C51RB2BA/01
designator U?
80C51 8-Bit Flash Microcontroller Family, 16 kB ISP/IAP Flash with 512 B RAM.; Published: 21-May-2003; LatestRevisionDate: 13-Apr-2006; LatestRevisionNote: IPC-7351 Footprint Added.; DatasheetVersion: 18-Jul-2002; PackageVersion: Jan-2000; PackageReference: SOT187-2; Publisher: Altium Limited; PackageDescription: 44-Pin Leaded Chip Carrier 1.27 mm Pitch; Code_JEDEC: MO-047AC; Code_IPC: PLCC-44; ComponentLink1Description: Manufacturer Link; ComponentLink1URL: http://www-us2.semiconductors.philips.com/; ComponentLink2Description: Datasheet; ComponentLink2URL: http://www.semiconductors.philips.com/acrobat/datasheets/P89C51RA2_RB2_RC2_RD2_2.pdf
footprint SOT187-2_N (Leaded Chip Carrier, 44-Leads, Body 16.6x16.6mm, Pitch 1.27mm, IPC Medium Density)
footprint SOT187-2_L (Leaded Chip Carrier, 44-Leads, Body 16.6x16.6mm, Pitch 1.27mm, IPC High Density)
footprint SOT187-2_M (Leaded Chip Carrier, 44-Leads, Body 16.6x16.6mm, Pitch 1.27mm, IPC Low Density)
pins: 1 NIC, 2 P1.0/T2 (io), 3 P1.1/T2EX (io), 4 P1.2/ECI (io), 5 P1.3/CEX0 (io), 6 P1.4/CEX1 (io), 7 P1.5/CEX2 (io), 8 P1.6/CEX3 (io), 9 P1.7/CEX4 (io), 10 RST (in), 11 P3.0/RxD (io), 12 NIC, 13 P3.1/TxD (io), 14 P3.2/~{INT}0 (io), 15 P3.3/~{INT}1 (io), 16 P3.4/T0 (io), 17 P3.5/T1 (io), 18 P3.6/~{WR} (io), 19 P3.7/~{RD} (io), 20 XTAL2 (out), 21 XTAL1 (in), 22 VSS (power), 23 NIC, 24 P2.0/A8 (io), 25 P2.1/A9 (io), 26 P2.2/A10 (io), 27 P2.3/A11 (io), 28 P2.4/A12 (io), 29 P2.5/A13 (io), 30 P2.6/A14 (io), 31 P2.7/A15 (io), 32 ~{PSEN} (out), 33 ALE/~{PROG} (io), 34 NIC, 35 ~{EA}/VPP (in), 36 P0.7/AD7 (io), 37 P0.6/AD6 (io), 38 P0.5/AD5 (io), 39 P0.4/AD4 (io), 40 P0.3/AD3 (io), 41 P0.2/AD2 (io), 42 P0.1/AD1 (io), 43 P0.0/AD0 (io), 44 VCC (power)

## P89C51RB2BBD/01
designator U?
80C51 8-Bit Flash Microcontroller Family, 16 kB ISP/IAP Flash with 512 B RAM.; Published: 21-May-2003; LatestRevisionDate: 13-Apr-2006; LatestRevisionNote: IPC-7351 Footprint Added.; DatasheetVersion: 18-Jul-2002; PackageVersion: Jan-2002; PackageReference: SOT389-1; Publisher: Altium Limited; PackageDescription: 44-Pin Thin Quad Flat Pack 0.8 mm Pitch; Code_JEDEC: MO-026; ComponentLink1Description: Manufacturer Link; ComponentLink1URL: http://www-us2.semiconductors.philips.com/; ComponentLink2Description: Datasheet; ComponentLink2URL: http://www.semiconductors.philips.com/acrobat/datasheets/P89C51RA2_RB2_RC2_RD2_2.pdf
footprint SOT389-1_N (Thin QFP, 44-Leads, Body 10x10mm, Pitch 0.8mm, IPC Medium Density)
footprint SOT389-1_L (Thin QFP, 44-Leads, Body 10x10mm, Pitch 0.8mm, IPC High Density)
footprint SOT389-1_M (Thin QFP, 44-Leads, Body 10x10mm, Pitch 0.8mm, IPC Low Density)
pins: 1 P1.5/CEX2 (io), 2 P1.6/CEX3 (io), 3 P1.7/CEX4 (io), 4 RST (in), 5 P3.0/RxD (io), 6 NIC, 7 P3.1/TxD (io), 8 P3.2/~{INT}0 (io), 9 P3.3/~{INT}1 (io), 10 P3.4/T0 (io), 11 P3.5/T1 (io), 12 P3.6/~{WR} (io), 13 P3.7/~{RD} (io), 14 XTAL2 (out), 15 XTAL1 (in), 16 VSS (power), 17 NIC, 18 P2.0/A8 (io), 19 P2.1/A9 (io), 20 P2.2/A10 (io), 21 P2.3/A11 (io), 22 P2.4/A12 (io), 23 P2.5/A13 (io), 24 P2.6/A14 (io), 25 P2.7/A15 (io), 26 ~{PSEN} (out), 27 ALE/~{PROG} (io), 28 NIC, 29 ~{EA}/VPP (in), 30 P0.7/AD7 (io), 31 P0.6/AD6 (io), 32 P0.5/AD5 (io), 33 P0.4/AD4 (io), 34 P0.3/AD3 (io), 35 P0.2/AD2 (io), 36 P0.1/AD1 (io), 37 P0.0/AD0 (io), 38 VCC (power), 39 NIC, 40 P1.0/T2 (io), 41 P1.1/T2EX (io), 42 P1.2/ECI (io), 43 P1.3/CEX0 (io), 44 P1.4/CEX1 (io)

## P89C51RB2HBA
designator U?
80C51 8-Bit Flash Microcontroller Family, 16 kB ISP/IAP Flash with 512 B RAM.; Published: 21-May-2003; LatestRevisionDate: 13-Apr-2006; LatestRevisionNote: IPC-7351 Footprint Added.; DatasheetVersion: 24-May-2002; PackageVersion: Jan-2000; PackageReference: SOT187-2; Publisher: Altium Limited; PackageDescription: 44-Pin Leaded Chip Carrier 1.27 mm Pitch; Code_JEDEC: MO-047AC; Code_IPC: PLCC-44; ComponentLink1Description: Manufacturer Link; ComponentLink1URL: http://www-us2.semiconductors.philips.com/; ComponentLink2Description: Datasheet; ComponentLink2URL: http://www.semiconductors.philips.com/pip/P89C51RB2_RC2_RD2_9.html; ComponentLink3Description: Discontinuation Notice; ComponentLink3URL: http://www.semiconductors.philips.com/pip/old/P89C51RB2_RC2_RD2_9.html
footprint SOT187-2_N (Leaded Chip Carrier, 44-Leads, Body 16.6x16.6mm, Pitch 1.27mm, IPC Medium Density)
footprint SOT187-2_L (Leaded Chip Carrier, 44-Leads, Body 16.6x16.6mm, Pitch 1.27mm, IPC High Density)
footprint SOT187-2_M (Leaded Chip Carrier, 44-Leads, Body 16.6x16.6mm, Pitch 1.27mm, IPC Low Density)
pins: 1 NIC, 2 P1.0/T2 (io), 3 P1.1/T2EX (io), 4 P1.2/ECI (io), 5 P1.3/CEX0 (io), 6 P1.4/CEX1 (io), 7 P1.5/CEX2 (io), 8 P1.6/CEX3 (io), 9 P1.7/CEX4 (io), 10 RST (in), 11 P3.0/RxD (io), 12 NIC, 13 P3.1/TxD (io), 14 P3.2/~{INT}0 (io), 15 P3.3/~{INT}1 (io), 16 P3.4/T0 (io), 17 P3.5/T1 (io), 18 P3.6/~{WR} (io), 19 P3.7/~{RD} (io), 20 XTAL2 (out), 21 XTAL1 (in), 22 VSS (power), 23 NIC, 24 P2.0/A8 (io), 25 P2.1/A9 (io), 26 P2.2/A10 (io), 27 P2.3/A11 (io), 28 P2.4/A12 (io), 29 P2.5/A13 (io), 30 P2.6/A14 (io), 31 P2.7/A15 (io), 32 ~{PSEN} (out), 33 ALE/~{PROG} (io), 34 NIC, 35 ~{EA}/VPP (in), 36 P0.7/AD7 (io), 37 P0.6/AD6 (io), 38 P0.5/AD5 (io), 39 P0.4/AD4 (io), 40 P0.3/AD3 (io), 41 P0.2/AD2 (io), 42 P0.1/AD1 (io), 43 P0.0/AD0 (io), 44 VCC (power)

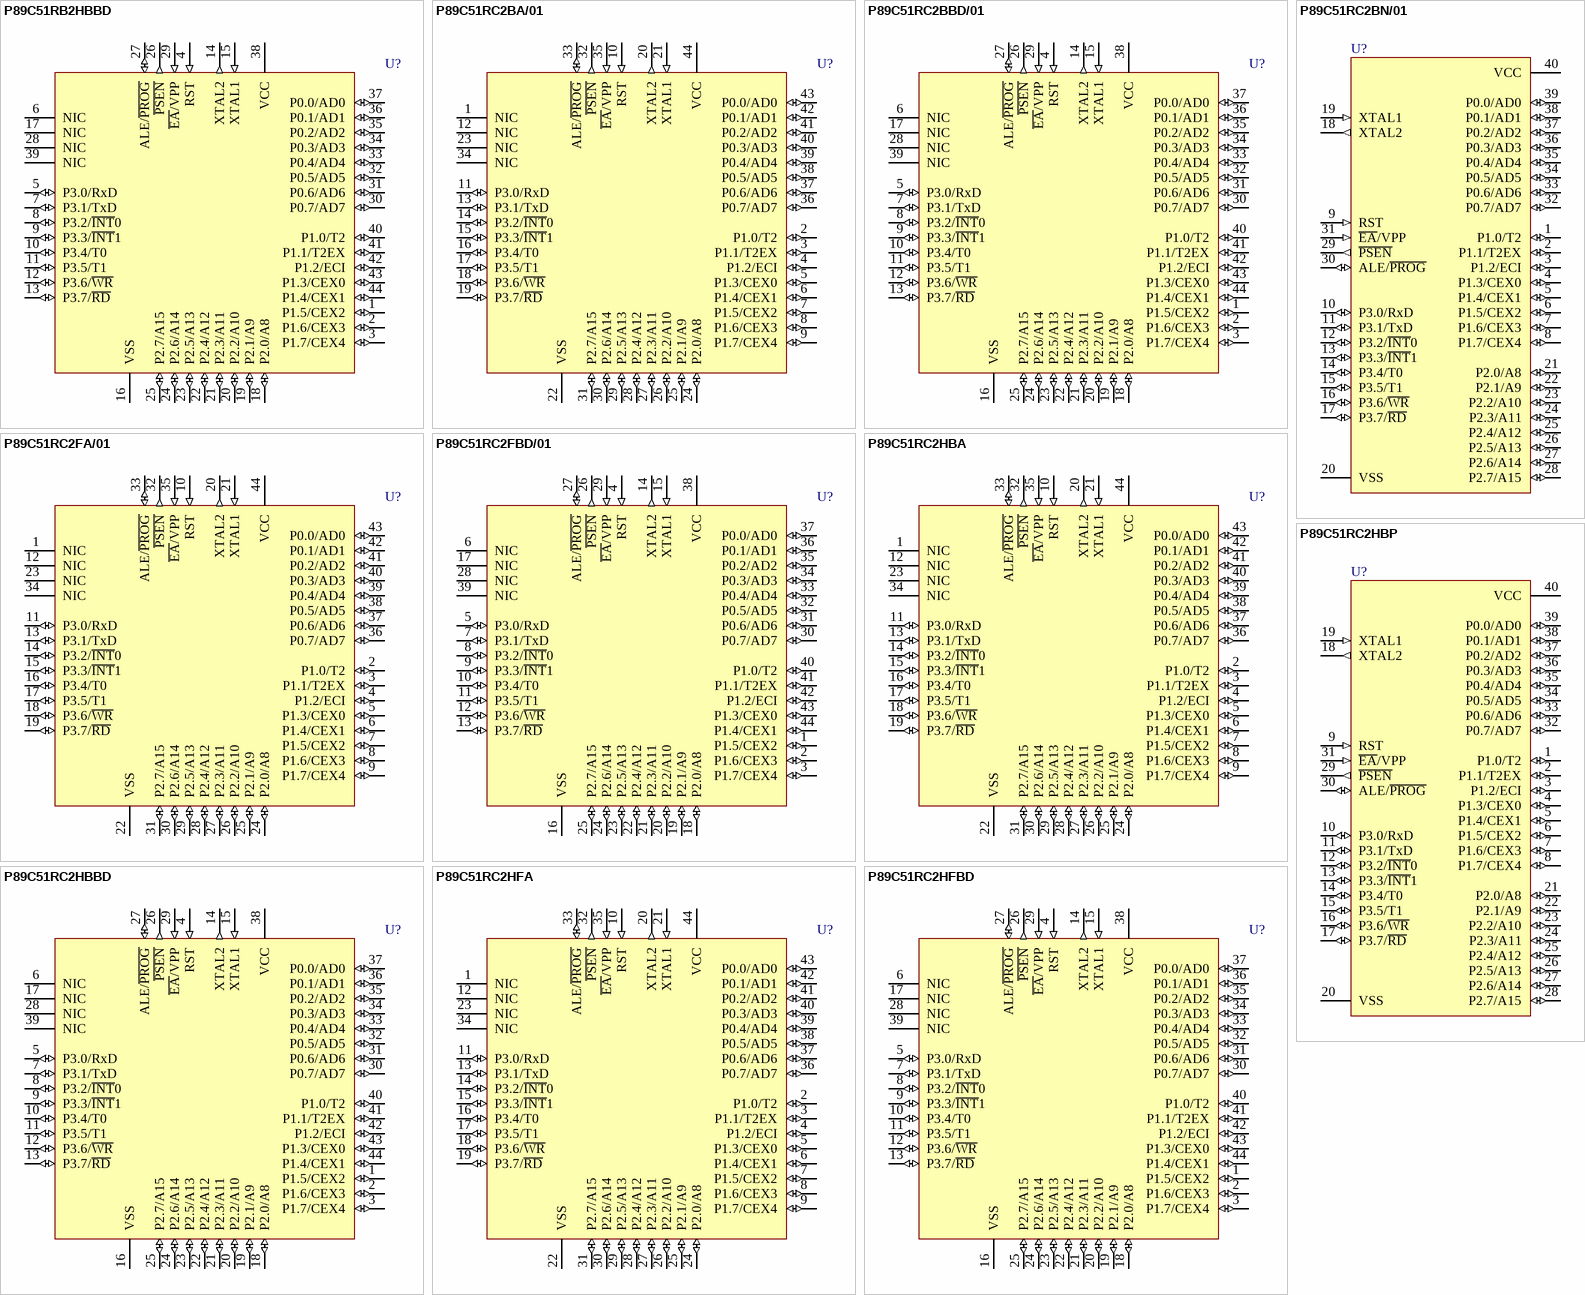
[diagram p43: symbols P89C51RB2HBBD to P89C51RC2HFBD]

## P89C51RB2HBBD
designator U?
80C51 8-Bit Flash Microcontroller Family, 16 kB ISP/IAP Flash with 512 B RAM.; Published: 21-May-2003; LatestRevisionDate: 13-Apr-2006; LatestRevisionNote: IPC-7351 Footprint Added.; DatasheetVersion: 24-May-2002; PackageVersion: Jan-2002; PackageReference: SOT389-1; Publisher: Altium Limited; PackageDescription: 44-Pin Thin Quad Flat Pack 0.8 mm Pitch; Code_JEDEC: MO-026; ComponentLink1Description: Manufacturer Link; ComponentLink1URL: http://www-us2.semiconductors.philips.com/; ComponentLink2Description: Datasheet; ComponentLink2URL: http://www.semiconductors.philips.com/pip/P89C51RB2_RC2_RD2_9.html; ComponentLink3Description: Discontinuation Notice; ComponentLink3URL: http://www.semiconductors.philips.com/pip/old/P89C51RB2_RC2_RD2_9.html
footprint SOT389-1_N (Thin QFP, 44-Leads, Body 10x10mm, Pitch 0.8mm, IPC Medium Density)
footprint SOT389-1_L (Thin QFP, 44-Leads, Body 10x10mm, Pitch 0.8mm, IPC High Density)
footprint SOT389-1_M (Thin QFP, 44-Leads, Body 10x10mm, Pitch 0.8mm, IPC Low Density)
pins: 1 P1.5/CEX2 (io), 2 P1.6/CEX3 (io), 3 P1.7/CEX4 (io), 4 RST (in), 5 P3.0/RxD (io), 6 NIC, 7 P3.1/TxD (io), 8 P3.2/~{INT}0 (io), 9 P3.3/~{INT}1 (io), 10 P3.4/T0 (io), 11 P3.5/T1 (io), 12 P3.6/~{WR} (io), 13 P3.7/~{RD} (io), 14 XTAL2 (out), 15 XTAL1 (in), 16 VSS (power), 17 NIC, 18 P2.0/A8 (io), 19 P2.1/A9 (io), 20 P2.2/A10 (io), 21 P2.3/A11 (io), 22 P2.4/A12 (io), 23 P2.5/A13 (io), 24 P2.6/A14 (io), 25 P2.7/A15 (io), 26 ~{PSEN} (out), 27 ALE/~{PROG} (io), 28 NIC, 29 ~{EA}/VPP (in), 30 P0.7/AD7 (io), 31 P0.6/AD6 (io), 32 P0.5/AD5 (io), 33 P0.4/AD4 (io), 34 P0.3/AD3 (io), 35 P0.2/AD2 (io), 36 P0.1/AD1 (io), 37 P0.0/AD0 (io), 38 VCC (power), 39 NIC, 40 P1.0/T2 (io), 41 P1.1/T2EX (io), 42 P1.2/ECI (io), 43 P1.3/CEX0 (io), 44 P1.4/CEX1 (io)

## P89C51RC2BA/01
designator U?
80C51 8-Bit Flash Microcontroller Family, 32 kB ISP/IAP Flash with 512 B RAM.; Published: 21-May-2003; LatestRevisionDate: 13-Apr-2006; LatestRevisionNote: IPC-7351 Footprint Added.; DatasheetVersion: 18-Jul-2002; PackageVersion: Jan-2000; PackageReference: SOT187-2; Publisher: Altium Limited; PackageDescription: 44-Pin Leaded Chip Carrier 1.27 mm Pitch; Code_JEDEC: MO-047AC; Code_IPC: PLCC-44; ComponentLink1Description: Manufacturer Link; ComponentLink1URL: http://www-us2.semiconductors.philips.com/; ComponentLink2Description: Datasheet; ComponentLink2URL: http://www.semiconductors.philips.com/acrobat/datasheets/P89C51RA2_RB2_RC2_RD2_2.pdf
footprint SOT187-2_N (Leaded Chip Carrier, 44-Leads, Body 16.6x16.6mm, Pitch 1.27mm, IPC Medium Density)
footprint SOT187-2_L (Leaded Chip Carrier, 44-Leads, Body 16.6x16.6mm, Pitch 1.27mm, IPC High Density)
footprint SOT187-2_M (Leaded Chip Carrier, 44-Leads, Body 16.6x16.6mm, Pitch 1.27mm, IPC Low Density)
pins: 1 NIC, 2 P1.0/T2 (io), 3 P1.1/T2EX (io), 4 P1.2/ECI (io), 5 P1.3/CEX0 (io), 6 P1.4/CEX1 (io), 7 P1.5/CEX2 (io), 8 P1.6/CEX3 (io), 9 P1.7/CEX4 (io), 10 RST (in), 11 P3.0/RxD (io), 12 NIC, 13 P3.1/TxD (io), 14 P3.2/~{INT}0 (io), 15 P3.3/~{INT}1 (io), 16 P3.4/T0 (io), 17 P3.5/T1 (io), 18 P3.6/~{WR} (io), 19 P3.7/~{RD} (io), 20 XTAL2 (out), 21 XTAL1 (in), 22 VSS (power), 23 NIC, 24 P2.0/A8 (io), 25 P2.1/A9 (io), 26 P2.2/A10 (io), 27 P2.3/A11 (io), 28 P2.4/A12 (io), 29 P2.5/A13 (io), 30 P2.6/A14 (io), 31 P2.7/A15 (io), 32 ~{PSEN} (out), 33 ALE/~{PROG} (io), 34 NIC, 35 ~{EA}/VPP (in), 36 P0.7/AD7 (io), 37 P0.6/AD6 (io), 38 P0.5/AD5 (io), 39 P0.4/AD4 (io), 40 P0.3/AD3 (io), 41 P0.2/AD2 (io), 42 P0.1/AD1 (io), 43 P0.0/AD0 (io), 44 VCC (power)

## P89C51RC2BBD/01
designator U?
80C51 8-Bit Flash Microcontroller Family, 32 kB ISP/IAP Flash with 512 B RAM.; Published: 21-May-2003; LatestRevisionDate: 13-Apr-2006; LatestRevisionNote: IPC-7351 Footprint Added.; DatasheetVersion: 18-Jul-2002; PackageVersion: Jan-2002; PackageReference: SOT389-1; Publisher: Altium Limited; PackageDescription: 44-Pin Thin Quad Flat Pack 0.8 mm Pitch; Code_JEDEC: MO-026; ComponentLink1Description: Manufacturer Link; ComponentLink1URL: http://www-us2.semiconductors.philips.com/; ComponentLink2Description: Datasheet; ComponentLink2URL: http://www.semiconductors.philips.com/acrobat/datasheets/P89C51RA2_RB2_RC2_RD2_2.pdf
footprint SOT389-1_N (Thin QFP, 44-Leads, Body 10x10mm, Pitch 0.8mm, IPC Medium Density)
footprint SOT389-1_L (Thin QFP, 44-Leads, Body 10x10mm, Pitch 0.8mm, IPC High Density)
footprint SOT389-1_M (Thin QFP, 44-Leads, Body 10x10mm, Pitch 0.8mm, IPC Low Density)
pins: 1 P1.5/CEX2 (io), 2 P1.6/CEX3 (io), 3 P1.7/CEX4 (io), 4 RST (in), 5 P3.0/RxD (io), 6 NIC, 7 P3.1/TxD (io), 8 P3.2/~{INT}0 (io), 9 P3.3/~{INT}1 (io), 10 P3.4/T0 (io), 11 P3.5/T1 (io), 12 P3.6/~{WR} (io), 13 P3.7/~{RD} (io), 14 XTAL2 (out), 15 XTAL1 (in), 16 VSS (power), 17 NIC, 18 P2.0/A8 (io), 19 P2.1/A9 (io), 20 P2.2/A10 (io), 21 P2.3/A11 (io), 22 P2.4/A12 (io), 23 P2.5/A13 (io), 24 P2.6/A14 (io), 25 P2.7/A15 (io), 26 ~{PSEN} (out), 27 ALE/~{PROG} (io), 28 NIC, 29 ~{EA}/VPP (in), 30 P0.7/AD7 (io), 31 P0.6/AD6 (io), 32 P0.5/AD5 (io), 33 P0.4/AD4 (io), 34 P0.3/AD3 (io), 35 P0.2/AD2 (io), 36 P0.1/AD1 (io), 37 P0.0/AD0 (io), 38 VCC (power), 39 NIC, 40 P1.0/T2 (io), 41 P1.1/T2EX (io), 42 P1.2/ECI (io), 43 P1.3/CEX0 (io), 44 P1.4/CEX1 (io)

## P89C51RC2BN/01
designator U?
80C51 8-Bit Flash Microcontroller Family, 32 kB ISP/IAP Flash with 512 B RAM.; Published: 21-May-2003; DatasheetVersion: 18-Jul-2002; PackageVersion: Aug-2000; PackageReference: SOT129-1; Publisher: Altium Limited; PackageDescription: DIP, Plastic; 40 Leads; Row Spacing 15.24 mm; Pitch 2.54 mm; Code_JEDEC: MO-015; ComponentLink1Description: Manufacturer Link; ComponentLink1URL: http://www-us2.semiconductors.philips.com/; ComponentLink2Description: Datasheet; ComponentLink2URL: http://www.semiconductors.philips.com/acrobat/datasheets/P89C51RA2_RB2_RC2_RD2_2.pdf
footprint SOT129-1 (DIP, Plastic; 40 Leads; Row Spacing 15.24 mm; Pitch 2.54 mm)
pins: 1 P1.0/T2 (io), 2 P1.1/T2EX (io), 3 P1.2/ECI (io), 4 P1.3/CEX0 (io), 5 P1.4/CEX1 (io), 6 P1.5/CEX2 (io), 7 P1.6/CEX3 (io), 8 P1.7/CEX4 (io), 9 RST (in), 10 P3.0/RxD (io), 11 P3.1/TxD (io), 12 P3.2/~{INT}0 (io), 13 P3.3/~{INT}1 (io), 14 P3.4/T0 (io), 15 P3.5/T1 (io), 16 P3.6/~{WR} (io), 17 P3.7/~{RD} (io), 18 XTAL2 (out), 19 XTAL1 (in), 20 VSS (power), 21 P2.0/A8 (io), 22 P2.1/A9 (io), 23 P2.2/A10 (io), 24 P2.3/A11 (io), 25 P2.4/A12 (io), 26 P2.5/A13 (io), 27 P2.6/A14 (io), 28 P2.7/A15 (io), 29 ~{PSEN} (out), 30 ALE/~{PROG} (io), 31 ~{EA}/VPP (in), 32 P0.7/AD7 (io), 33 P0.6/AD6 (io), 34 P0.5/AD5 (io), 35 P0.4/AD4 (io), 36 P0.3/AD3 (io), 37 P0.2/AD2 (io), 38 P0.1/AD1 (io), 39 P0.0/AD0 (io), 40 VCC (power)

## P89C51RC2FA/01
designator U?
80C51 8-Bit Flash Microcontroller Family, 32 kB ISP/IAP Flash with 512 B RAM.; Published: 21-May-2003; LatestRevisionDate: 13-Apr-2006; LatestRevisionNote: IPC-7351 Footprint Added.; DatasheetVersion: 18-Jul-2002; PackageVersion: Jan-2000; PackageReference: SOT187-2; Publisher: Altium Limited; PackageDescription: 44-Pin Leaded Chip Carrier 1.27 mm Pitch; Code_JEDEC: MO-047AC; Code_IPC: PLCC-44; ComponentLink1Description: Manufacturer Link; ComponentLink1URL: http://www-us2.semiconductors.philips.com/; ComponentLink2Description: Datasheet; ComponentLink2URL: http://www.semiconductors.philips.com/acrobat/datasheets/P89C51RA2_RB2_RC2_RD2_2.pdf
footprint SOT187-2_N (Leaded Chip Carrier, 44-Leads, Body 16.6x16.6mm, Pitch 1.27mm, IPC Medium Density)
footprint SOT187-2_L (Leaded Chip Carrier, 44-Leads, Body 16.6x16.6mm, Pitch 1.27mm, IPC High Density)
footprint SOT187-2_M (Leaded Chip Carrier, 44-Leads, Body 16.6x16.6mm, Pitch 1.27mm, IPC Low Density)
pins: 1 NIC, 2 P1.0/T2 (io), 3 P1.1/T2EX (io), 4 P1.2/ECI (io), 5 P1.3/CEX0 (io), 6 P1.4/CEX1 (io), 7 P1.5/CEX2 (io), 8 P1.6/CEX3 (io), 9 P1.7/CEX4 (io), 10 RST (in), 11 P3.0/RxD (io), 12 NIC, 13 P3.1/TxD (io), 14 P3.2/~{INT}0 (io), 15 P3.3/~{INT}1 (io), 16 P3.4/T0 (io), 17 P3.5/T1 (io), 18 P3.6/~{WR} (io), 19 P3.7/~{RD} (io), 20 XTAL2 (out), 21 XTAL1 (in), 22 VSS (power), 23 NIC, 24 P2.0/A8 (io), 25 P2.1/A9 (io), 26 P2.2/A10 (io), 27 P2.3/A11 (io), 28 P2.4/A12 (io), 29 P2.5/A13 (io), 30 P2.6/A14 (io), 31 P2.7/A15 (io), 32 ~{PSEN} (out), 33 ALE/~{PROG} (io), 34 NIC, 35 ~{EA}/VPP (in), 36 P0.7/AD7 (io), 37 P0.6/AD6 (io), 38 P0.5/AD5 (io), 39 P0.4/AD4 (io), 40 P0.3/AD3 (io), 41 P0.2/AD2 (io), 42 P0.1/AD1 (io), 43 P0.0/AD0 (io), 44 VCC (power)

## P89C51RC2FBD/01
designator U?
80C51 8-Bit Flash Microcontroller Family, 32 kB ISP/IAP Flash with 512 B RAM.; Published: 21-May-2003; LatestRevisionDate: 13-Apr-2006; LatestRevisionNote: IPC-7351 Footprint Added.; DatasheetVersion: 18-Jul-2002; PackageVersion: Jan-2002; PackageReference: SOT389-1; Publisher: Altium Limited; PackageDescription: 44-Pin Thin Quad Flat Pack 0.8 mm Pitch; Code_JEDEC: MO-026; ComponentLink1Description: Manufacturer Link; ComponentLink1URL: http://www-us2.semiconductors.philips.com/; ComponentLink2Description: Datasheet; ComponentLink2URL: http://www.semiconductors.philips.com/acrobat/datasheets/P89C51RA2_RB2_RC2_RD2_2.pdf
footprint SOT389-1_N (Thin QFP, 44-Leads, Body 10x10mm, Pitch 0.8mm, IPC Medium Density)
footprint SOT389-1_L (Thin QFP, 44-Leads, Body 10x10mm, Pitch 0.8mm, IPC High Density)
footprint SOT389-1_M (Thin QFP, 44-Leads, Body 10x10mm, Pitch 0.8mm, IPC Low Density)
pins: 1 P1.5/CEX2 (io), 2 P1.6/CEX3 (io), 3 P1.7/CEX4 (io), 4 RST (in), 5 P3.0/RxD (io), 6 NIC, 7 P3.1/TxD (io), 8 P3.2/~{INT}0 (io), 9 P3.3/~{INT}1 (io), 10 P3.4/T0 (io), 11 P3.5/T1 (io), 12 P3.6/~{WR} (io), 13 P3.7/~{RD} (io), 14 XTAL2 (out), 15 XTAL1 (in), 16 VSS (power), 17 NIC, 18 P2.0/A8 (io), 19 P2.1/A9 (io), 20 P2.2/A10 (io), 21 P2.3/A11 (io), 22 P2.4/A12 (io), 23 P2.5/A13 (io), 24 P2.6/A14 (io), 25 P2.7/A15 (io), 26 ~{PSEN} (out), 27 ALE/~{PROG} (io), 28 NIC, 29 ~{EA}/VPP (in), 30 P0.7/AD7 (io), 31 P0.6/AD6 (io), 32 P0.5/AD5 (io), 33 P0.4/AD4 (io), 34 P0.3/AD3 (io), 35 P0.2/AD2 (io), 36 P0.1/AD1 (io), 37 P0.0/AD0 (io), 38 VCC (power), 39 NIC, 40 P1.0/T2 (io), 41 P1.1/T2EX (io), 42 P1.2/ECI (io), 43 P1.3/CEX0 (io), 44 P1.4/CEX1 (io)

## P89C51RC2HBA
designator U?
80C51 8-Bit Flash Microcontroller Family, 32 kB ISP/IAP Flash with 512 B RAM.; Published: 21-May-2003; LatestRevisionDate: 13-Apr-2006; LatestRevisionNote: IPC-7351 Footprint Added.; DatasheetVersion: 24-May-2002; PackageVersion: Jan-2000; PackageReference: SOT187-2; Publisher: Altium Limited; PackageDescription: 44-Pin Leaded Chip Carrier 1.27 mm Pitch; Code_JEDEC: MO-047AC; Code_IPC: PLCC-44; ComponentLink1Description: Manufacturer Link; ComponentLink1URL: http://www-us2.semiconductors.philips.com/; ComponentLink2Description: Datasheet; ComponentLink2URL: http://www.semiconductors.philips.com/pip/P89C51RB2_RC2_RD2_9.html; ComponentLink3Description: Discontinuation Notice; ComponentLink3URL: http://www.semiconductors.philips.com/pip/old/P89C51RB2_RC2_RD2_9.html
footprint SOT187-2_N (Leaded Chip Carrier, 44-Leads, Body 16.6x16.6mm, Pitch 1.27mm, IPC Medium Density)
footprint SOT187-2_L (Leaded Chip Carrier, 44-Leads, Body 16.6x16.6mm, Pitch 1.27mm, IPC High Density)
footprint SOT187-2_M (Leaded Chip Carrier, 44-Leads, Body 16.6x16.6mm, Pitch 1.27mm, IPC Low Density)
pins: 1 NIC, 2 P1.0/T2 (io), 3 P1.1/T2EX (io), 4 P1.2/ECI (io), 5 P1.3/CEX0 (io), 6 P1.4/CEX1 (io), 7 P1.5/CEX2 (io), 8 P1.6/CEX3 (io), 9 P1.7/CEX4 (io), 10 RST (in), 11 P3.0/RxD (io), 12 NIC, 13 P3.1/TxD (io), 14 P3.2/~{INT}0 (io), 15 P3.3/~{INT}1 (io), 16 P3.4/T0 (io), 17 P3.5/T1 (io), 18 P3.6/~{WR} (io), 19 P3.7/~{RD} (io), 20 XTAL2 (out), 21 XTAL1 (in), 22 VSS (power), 23 NIC, 24 P2.0/A8 (io), 25 P2.1/A9 (io), 26 P2.2/A10 (io), 27 P2.3/A11 (io), 28 P2.4/A12 (io), 29 P2.5/A13 (io), 30 P2.6/A14 (io), 31 P2.7/A15 (io), 32 ~{PSEN} (out), 33 ALE/~{PROG} (io), 34 NIC, 35 ~{EA}/VPP (in), 36 P0.7/AD7 (io), 37 P0.6/AD6 (io), 38 P0.5/AD5 (io), 39 P0.4/AD4 (io), 40 P0.3/AD3 (io), 41 P0.2/AD2 (io), 42 P0.1/AD1 (io), 43 P0.0/AD0 (io), 44 VCC (power)

## P89C51RC2HBBD
designator U?
80C51 8-Bit Flash Microcontroller Family, 32 kB ISP/IAP Flash with 512 B RAM.; Published: 21-May-2003; LatestRevisionDate: 13-Apr-2006; LatestRevisionNote: IPC-7351 Footprint Added.; DatasheetVersion: 24-May-2002; PackageVersion: Jan-2002; PackageReference: SOT389-1; Publisher: Altium Limited; PackageDescription: 44-Pin Thin Quad Flat Pack 0.8 mm Pitch; Code_JEDEC: MO-026; ComponentLink1Description: Manufacturer Link; ComponentLink1URL: http://www-us2.semiconductors.philips.com/; ComponentLink2Description: Datasheet; ComponentLink2URL: http://www.semiconductors.philips.com/pip/P89C51RB2_RC2_RD2_9.html; ComponentLink3Description: Discontinuation Notice; ComponentLink3URL: http://www.semiconductors.philips.com/pip/old/P89C51RB2_RC2_RD2_9.html
footprint SOT389-1_N (Thin QFP, 44-Leads, Body 10x10mm, Pitch 0.8mm, IPC Medium Density)
footprint SOT389-1_L (Thin QFP, 44-Leads, Body 10x10mm, Pitch 0.8mm, IPC High Density)
footprint SOT389-1_M (Thin QFP, 44-Leads, Body 10x10mm, Pitch 0.8mm, IPC Low Density)
pins: 1 P1.5/CEX2 (io), 2 P1.6/CEX3 (io), 3 P1.7/CEX4 (io), 4 RST (in), 5 P3.0/RxD (io), 6 NIC, 7 P3.1/TxD (io), 8 P3.2/~{INT}0 (io), 9 P3.3/~{INT}1 (io), 10 P3.4/T0 (io), 11 P3.5/T1 (io), 12 P3.6/~{WR} (io), 13 P3.7/~{RD} (io), 14 XTAL2 (out), 15 XTAL1 (in), 16 VSS (power), 17 NIC, 18 P2.0/A8 (io), 19 P2.1/A9 (io), 20 P2.2/A10 (io), 21 P2.3/A11 (io), 22 P2.4/A12 (io), 23 P2.5/A13 (io), 24 P2.6/A14 (io), 25 P2.7/A15 (io), 26 ~{PSEN} (out), 27 ALE/~{PROG} (io), 28 NIC, 29 ~{EA}/VPP (in), 30 P0.7/AD7 (io), 31 P0.6/AD6 (io), 32 P0.5/AD5 (io), 33 P0.4/AD4 (io), 34 P0.3/AD3 (io), 35 P0.2/AD2 (io), 36 P0.1/AD1 (io), 37 P0.0/AD0 (io), 38 VCC (power), 39 NIC, 40 P1.0/T2 (io), 41 P1.1/T2EX (io), 42 P1.2/ECI (io), 43 P1.3/CEX0 (io), 44 P1.4/CEX1 (io)

## P89C51RC2HBP
designator U?
80C51 8-Bit Flash Microcontroller Family, 32 kB ISP/IAP Flash with 512 B RAM.; Published: 21-May-2003; DatasheetVersion: 24-May-2002; PackageVersion: Aug-2000; PackageReference: SOT129-1; Publisher: Altium Limited; PackageDescription: DIP, Plastic; 40 Leads; Row Spacing 15.24 mm; Pitch 2.54 mm; Code_JEDEC: MO-015; ComponentLink1Description: Manufacturer Link; ComponentLink1URL: http://www-us2.semiconductors.philips.com/; ComponentLink2Description: Datasheet; ComponentLink2URL: http://www.semiconductors.philips.com/pip/P89C51RB2_RC2_RD2_9.html; ComponentLink3Description: Discontinuation Notice; ComponentLink3URL: http://www.semiconductors.philips.com/pip/old/P89C51RB2_RC2_RD2_9.html
footprint SOT129-1 (DIP, Plastic; 40 Leads; Row Spacing 15.24 mm; Pitch 2.54 mm)
pins: 1 P1.0/T2 (io), 2 P1.1/T2EX (io), 3 P1.2/ECI (io), 4 P1.3/CEX0 (io), 5 P1.4/CEX1 (io), 6 P1.5/CEX2 (io), 7 P1.6/CEX3 (io), 8 P1.7/CEX4 (io), 9 RST (in), 10 P3.0/RxD (io), 11 P3.1/TxD (io), 12 P3.2/~{INT}0 (io), 13 P3.3/~{INT}1 (io), 14 P3.4/T0 (io), 15 P3.5/T1 (io), 16 P3.6/~{WR} (io), 17 P3.7/~{RD} (io), 18 XTAL2 (out), 19 XTAL1 (in), 20 VSS (power), 21 P2.0/A8 (io), 22 P2.1/A9 (io), 23 P2.2/A10 (io), 24 P2.3/A11 (io), 25 P2.4/A12 (io), 26 P2.5/A13 (io), 27 P2.6/A14 (io), 28 P2.7/A15 (io), 29 ~{PSEN} (out), 30 ALE/~{PROG} (io), 31 ~{EA}/VPP (in), 32 P0.7/AD7 (io), 33 P0.6/AD6 (io), 34 P0.5/AD5 (io), 35 P0.4/AD4 (io), 36 P0.3/AD3 (io), 37 P0.2/AD2 (io), 38 P0.1/AD1 (io), 39 P0.0/AD0 (io), 40 VCC (power)